# EAGLE library part MAX9708ETN (library Audio-Power-amlifier V.2.0)
The MAX9708 mono/stereo, Class D audio power amplifier delivers up to 2 x 21W into an 8Ω stereo mode and 1 x 42W into a 4Ω load in mono mode while offering up to 87% efficiency. The MAX9708 provides Class AB amplifier performance with the benefits of Class D efficiency, eliminating the need for a bulky heatsink and conserving power. The MAX9708 operates from a single +10V to +18V supply, driving the load in a BTL configuration. The MAX9708
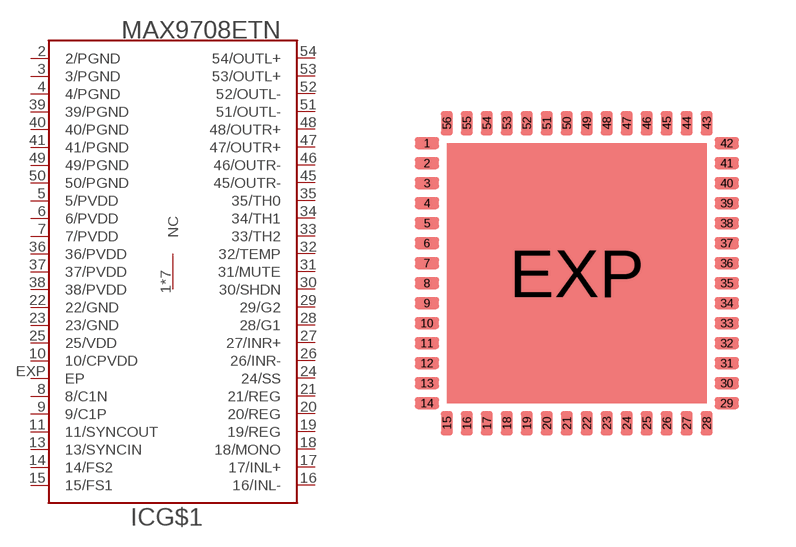
[diagram p237: symbol with the pads of TQFN56L; footprint TQFN56L]

Designator prefix IC; gates G$1=MAX9708ETN G$2=NC

## MAX9708ETN  [TQFN56L]
1  G$2:NC  nc
2  G$1:2/PGND  pwr
3  G$1:3/PGND  pwr
4  G$1:4/PGND  pwr
5  G$1:5/PVDD  pwr
6  G$1:6/PVDD  pwr
7  G$1:7/PVDD  pwr
8  G$1:8/C1N
9  G$1:9/C1P
10  G$1:10/CPVDD  pwr
11  G$1:11/SYNCOUT  out
12  G$2:NC  nc
13  G$1:13/SYNCIN  in
14  G$1:14/FS2
15  G$1:15/FS1
16  G$1:16/INL-  in
17  G$1:17/INL+  in
18  G$1:18/MONO  in
19  G$1:19/REG  out
20  G$1:20/REG  out
21  G$1:21/REG  out
22  G$1:22/GND  pwr
23  G$1:23/GND  pwr
24  G$1:24/SS
25  G$1:25/VDD  pwr
26  G$1:26/INR-  in
27  G$1:27/INR+  in
28  G$1:28/G1  in
29  G$1:29/G2  in
30  G$1:30/SHDN  in
31  G$1:31/MUTE  in
32  G$1:32/TEMP  out
33  G$1:33/TH2  in
34  G$1:34/TH1  in
35  G$1:35/TH0  in
36  G$1:36/PVDD  pwr
37  G$1:37/PVDD  pwr
38  G$1:38/PVDD  pwr
39  G$1:39/PGND  pwr
40  G$1:40/PGND  pwr
41  G$1:41/PGND  pwr
42  G$2:NC  nc
43  G$2:NC  nc
44  G$2:NC  nc
45  G$1:45/OUTR-  out
46  G$1:46/OUTR-  out
47  G$1:47/OUTR+  out
48  G$1:48/OUTR+  out
49  G$1:49/PGND  pwr
50  G$1:50/PGND  pwr
51  G$1:51/OUTL-  out
52  G$1:52/OUTL-  out
53  G$1:53/OUTL+  out
54  G$1:54/OUTL+  out
55  G$2:NC  nc
56  G$2:NC  nc
EXP  G$1:EP  pwr

## Footprint TQFN56L (pad centres in mm)
TQFN56L-8x8x0,8mm www.maxim-ic.com/packages
smd 0.61 x 0.305: 1 -3.75,3.25; 2 -3.75,2.75; 3 -3.75,2.25; 4 -3.75,1.75; 5 -3.75,1.25; 6 -3.75,0.75; 7 -3.75,0.25; 8 -3.75,-0.25; 9 -3.75,-0.75; 10 -3.75,-1.25; 11 -3.75,-1.75; 12 -3.75,-2.25; 13 -3.75,-2.75; 14 -3.75,-3.25; 29 3.75,-3.25; 30 3.75,-2.75; 31 3.75,-2.25; 32 3.75,-1.75; 33 3.75,-1.25; 34 3.75,-0.75; 35 3.75,-0.25; 36 3.75,0.25; 37 3.75,0.75; 38 3.75,1.25; 39 3.75,1.75; 40 3.75,2.25; 41 3.75,2.75; 42 3.75,3.25
smd 0.305 x 0.61: 15 -3.25,-3.75; 16 -2.75,-3.75; 17 -2.25,-3.75; 18 -1.75,-3.75; 19 -1.25,-3.75; 20 -0.75,-3.75; 21 -0.25,-3.75; 22 0.25,-3.75; 23 0.75,-3.75; 24 1.25,-3.75; 25 1.75,-3.75; 26 2.25,-3.75; 27 2.75,-3.75; 28 3.25,-3.75; 43 3.25,3.75; 44 2.75,3.75; 45 2.25,3.75; 46 1.75,3.75; 47 1.25,3.75; 48 0.75,3.75; 49 0.25,3.75; 50 -0.25,3.75; 51 -0.75,3.75; 52 -1.25,3.75; 53 -1.75,3.75; 54 -2.25,3.75; 55 -2.75,3.75; 56 -3.25,3.75
smd 6.5 x 6.5: EXP 0,0